# EAGLE library part 74HC244_KXN (library kxnStandard_IC_Function)
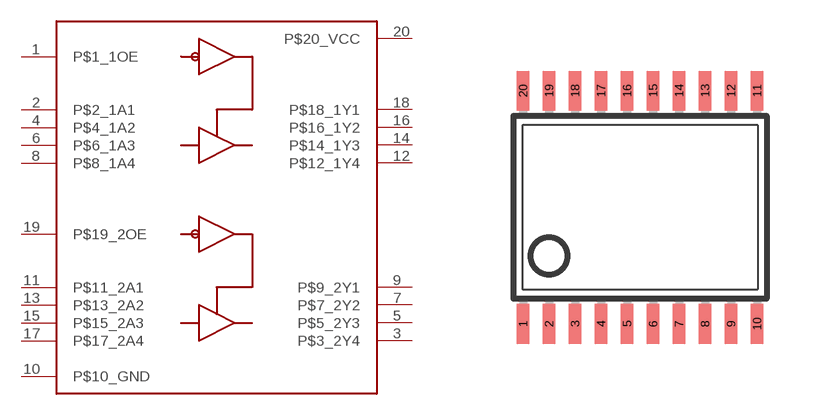
[diagram p11: symbol with the pads of TSSOP20; footprint TSSOP20]

Designator prefix -

## 74HC244_KXN_FULL (CC_SHOP: CongCo)  [TSSOP20]
1  P$1_1OE
2  P$2_1A1
3  P$3_2Y4
4  P$4_1A2
5  P$5_2Y3
6  P$6_1A3
7  P$7_2Y2
8  P$8_1A4
9  P$9_2Y1
10  P$10_GND
11  P$11_2A1
12  P$12_1Y4
13  P$13_2A2
14  P$14_1Y3
15  P$15_2A3
16  P$16_1Y2
17  P$17_2A4
18  P$18_1Y1
19  P$19_2OE
20  P$20_VCC

## Footprint TSSOP20 (pad centres in mm)
Thin Shrink Small Outline Plastic 20 MAX3223-MAX3243.pdf
smd 0.305 x 0.991: 1 -2.925,-2.918; 2 -2.275,-2.918; 3 -1.625,-2.918; 4 -0.975,-2.918; 5 -0.325,-2.918; 6 0.325,-2.918; 7 0.975,-2.918; 8 1.625,-2.918; 9 2.275,-2.918; 10 2.925,-2.918; 11 2.925,2.918; 12 2.275,2.918; 13 1.625,2.918; 14 0.975,2.918; 15 0.325,2.918; 16 -0.325,2.918; 17 -0.975,2.918; 18 -1.625,2.918; 19 -2.275,2.918; 20 -2.925,2.918